# Altium schematic symbol library Vacuum_Tube.SchLib: 6 symbols
Pins are listed as number, name and electrical type; pins without a type are passive.

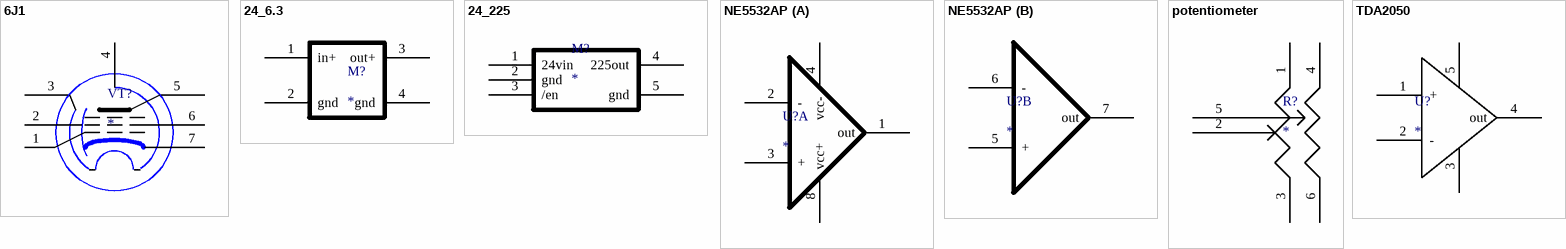
[diagram p0: symbols 6J1 to TDA2050]

## 6J1
designator VT?
pins: 1 G1, 2 K/G3, 3 F, 4 F, 5 A, 6 G2, 7 K/G3

## 24_6.3
designator M?
footprint 24V_6.3V
pins: 1 in+, 2 gnd, 3 out+, 4 gnd

## 24_225
designator M?
footprint 24V_225V
pins: 1 24vin, 2 gnd, 3 /en, 4 225out, 5 gnd

## NE5532AP
designator U?
part A pins: 1 out, 2 -, 3 +, 4 vcc-, 8 vcc+
part B pins: 5 +, 6 -, 7 out

## potentiometer
designator R?
pins: 1 -, 2 -, 3 -, 4 -, 5 -, 6 -

## TDA2050
designator U?
pins: 1 +, 2 -, 3 gnd, 4 out, 5 vcc